# Altium schematic symbol library Conn_32pin.SchLib: 1 symbol
Pins are listed as number, name and electrical type; pins without a type are passive.

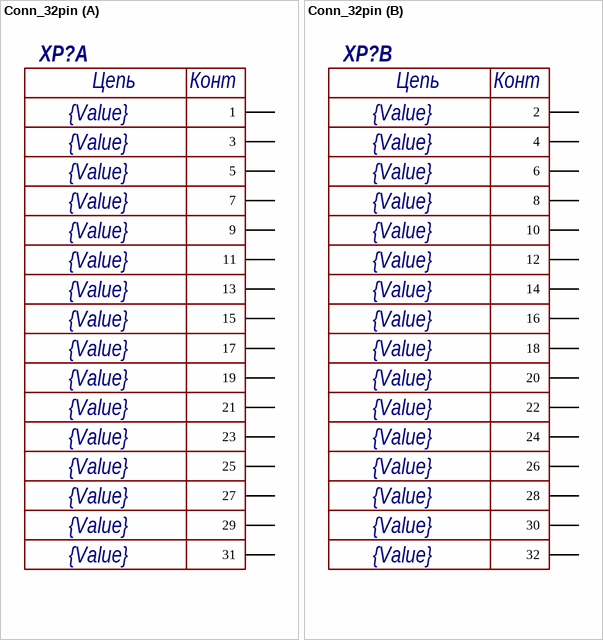
[diagram p0: symbol Conn_32pin]

## Conn_32pin
designator XP?  1: {Value}
2: {Value}; 3: {Value}; 4: {Value}; 5: {Value}; 6: {Value}; 7: {Value}; 8: {Value}; 9: {Value}; 10: {Value}; 11: {Value}; 12: {Value}; 13: {Value}; 14: {Value}; 15: {Value}; 16: {Value}
part A pins: 1, 3, 5, 7, 9, 11, 13, 15, 17, 19, 21, 23, 25, 27, 29, 31
part B pins: 2, 4, 6, 8, 10, 12, 14, 16, 18, 20, 22, 24, 26, 28, 30, 32
part A text: Цепь; Конт
part B text: Цепь; Конт